# Altium footprint library WEIDMULLER SMD.PcbLib: 1 footprints
Each footprint in its own frame and in the unit in brackets; x right, y up, seen from the top. Pads: shape width x height; smd on the part's side, far side on the other; paste and mask are expansions set on the pad; w line width, h text height; cw(c..) or ccw(c..) is an arc to the next point about the centre after c.
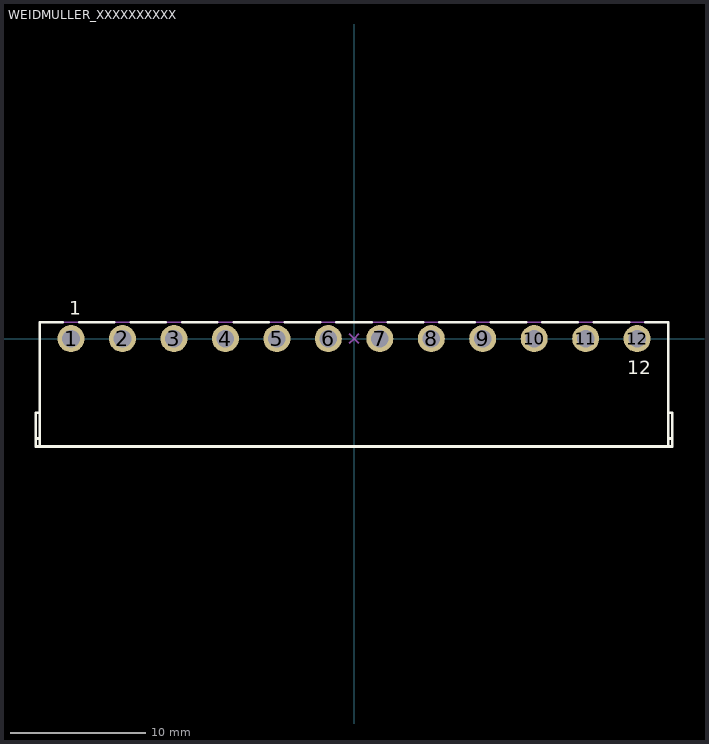
[diagram p0: the footprint, top view; thin cyan lines are the x and y axes]

## WEIDMULLER_XXXXXXXXXX [mm]
pads (12):
  round 2 hole 1.3: 1(-20.955,0) 2(-17.145,0) 3(-13.335,0) 4(-9.525,0) 5(-5.715,0) 6(-1.905,0) 7(1.905,0) 8(5.715,0) 9(9.525,0) 10(13.335,0) 11(17.145,0) 12(20.955,0)
Top Overlay:
  lines w0.2: -23.56,-7.395 -23.26,-7.395 ; -23.26,-7.995 -23.26,1.205 -21.564,1.205 ; -23.26,-5.495 -23.56,-5.495 -23.56,-7.995 23.55,-7.995 23.55,-5.495 23.25,-5.495 ; -20.346,1.205 -17.754,1.205 ; -16.536,1.205 -13.944,1.205 ; -12.726,1.205 -10.134,1.205 ; -8.916,1.205 -6.324,1.205 ; -5.106,1.205 -2.514,1.205 ; -1.296,1.205 1.296,1.205 ; 2.514,1.205 5.106,1.205 ; 6.324,1.205 8.916,1.205 ; 10.134,1.205 12.726,1.205 ; 13.944,1.205 16.536,1.205 ; 17.754,1.205 20.346,1.205 ; 21.564,1.205 23.25,1.205 23.25,-7.995 ; 23.25,-7.395 23.55,-7.395
  text "12" at 20.215,-2.65 h1
  text "1" at -21.09,1.75 h1
Mechanical 8:
  lines w0.1: -21.455,0 -20.955,0 ; -20.955,-0.5 -20.955,0 ; -20.955,0.5 -20.955,0 ; -20.455,0 -20.955,0 ; -17.645,0 -17.145,0 ; -17.145,-0.5 -17.145,0 ; -17.145,0.5 -17.145,0 ; -16.645,0 -17.145,0 ; -13.835,0 -13.335,0 ; -13.335,-0.5 -13.335,0 ; -13.335,0.5 -13.335,0 ; -12.835,0 -13.335,0 ; -10.025,0 -9.525,0 ; -9.525,-0.5 -9.525,0 ; -9.525,0.5 -9.525,0 ; -9.025,0 -9.525,0 ; -6.215,0 -5.715,0 ; -5.715,-0.5 -5.715,0 ; -5.715,0.5 -5.715,0 ; -5.215,0 -5.715,0 ; -2.405,0 -1.905,0 ; -1.905,-0.5 -1.905,0 ; -1.905,0.5 -1.905,0 ; -1.405,0 -1.905,0 ; -0.354,-0.354 0,0 ; -0.354,0.354 0,0 ; 0.354,-0.354 0,0 ; 0.354,0.354 0,0 ; 1.405,0 1.905,0 ; 1.905,-0.5 1.905,0 ; 1.905,0.5 1.905,0 ; 2.405,0 1.905,0 ; 5.215,0 5.715,0 ; 5.715,-0.5 5.715,0 ; 5.715,0.5 5.715,0 ; 6.215,0 5.715,0 ; 9.025,0 9.525,0 ; 9.525,-0.5 9.525,0 ; 9.525,0.5 9.525,0 ; 10.025,0 9.525,0 ; 12.835,0 13.335,0 ; 13.335,-0.5 13.335,0 ; 13.335,0.5 13.335,0 ; 13.835,0 13.335,0 ; 16.645,0 17.145,0 ; 17.145,-0.5 17.145,0 ; 17.145,0.5 17.145,0 ; 17.645,0 17.145,0 ; 20.455,0 20.955,0 ; 20.955,-0.5 20.955,0 ; 20.955,0.5 20.955,0 ; 21.455,0 20.955,0
Mechanical 14:
  lines w0.1: -23.56,-7.395 -23.26,-7.395 ; -23.26,-7.995 -23.26,1.205 23.25,1.205 23.25,-7.995 ; -23.26,-5.495 -23.56,-5.495 -23.56,-7.995 23.55,-7.995 23.55,-5.495 23.25,-5.495 ; 23.25,-7.395 23.55,-7.395
  text "12" at 20.215,-2.65 h1
  text "11" at 16.405,-2.65 h1
  text "1" at -21.295,-2.65 h1
  text "2" at -17.485,-2.65 h1
  text "3" at -13.675,-2.65 h1
  text "4" at -9.865,-2.65 h1
  text "5" at -6.055,-2.65 h1
  text "6" at -2.245,-2.65 h1
  text "7" at 1.565,-2.65 h1
  text "8" at 5.375,-2.65 h1
  text "9" at 9.185,-2.65 h1
  text "10" at 12.595,-2.65 h1
3D body: height 7.05, standoff -3.2, extent -23.56,-7.995 23.55,1.205